# Altium integrated library MAX232CWE-TG002.IntLib: 1 symbol
Pins are listed as number, name and electrical type; pins without a type are passive.

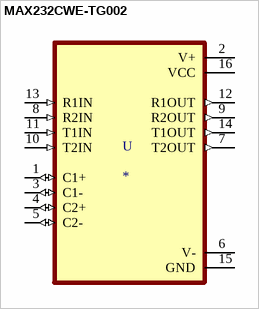
[diagram p0: symbol MAX232CWE-TG002]

## MAX232CWE-TG002
designator U
2/2 Transceiver Full RS232 16-SOIC; MP: MAX232CWE; MF: Maxim Integrated; Price: None; SnapEDA_Link: https://www.snapeda.com/parts/MAX232CWE/Maxim%20Integrated/view-part/977003/?ref=snap; Value: *; Availability: Unavailable; Package: SOIC-16 Maxim Integrated
footprint SOIC127P1032X265-16N
pins: 1 C1+ (io), 2 V+ (power), 3 C1- (io), 4 C2+ (io), 5 C2- (io), 6 V- (power), 7 T2OUT (out), 8 R2IN (in), 9 R2OUT (out), 10 T2IN (in), 11 T1IN (in), 12 R1OUT (out), 13 R1IN (in), 14 T1OUT (out), 15 GND (power), 16 VCC (power)